# Altium integrated library 2021-06-08_17-56-01.IntLib: 1 symbol
Pins are listed as number, name and electrical type; pins without a type are passive.

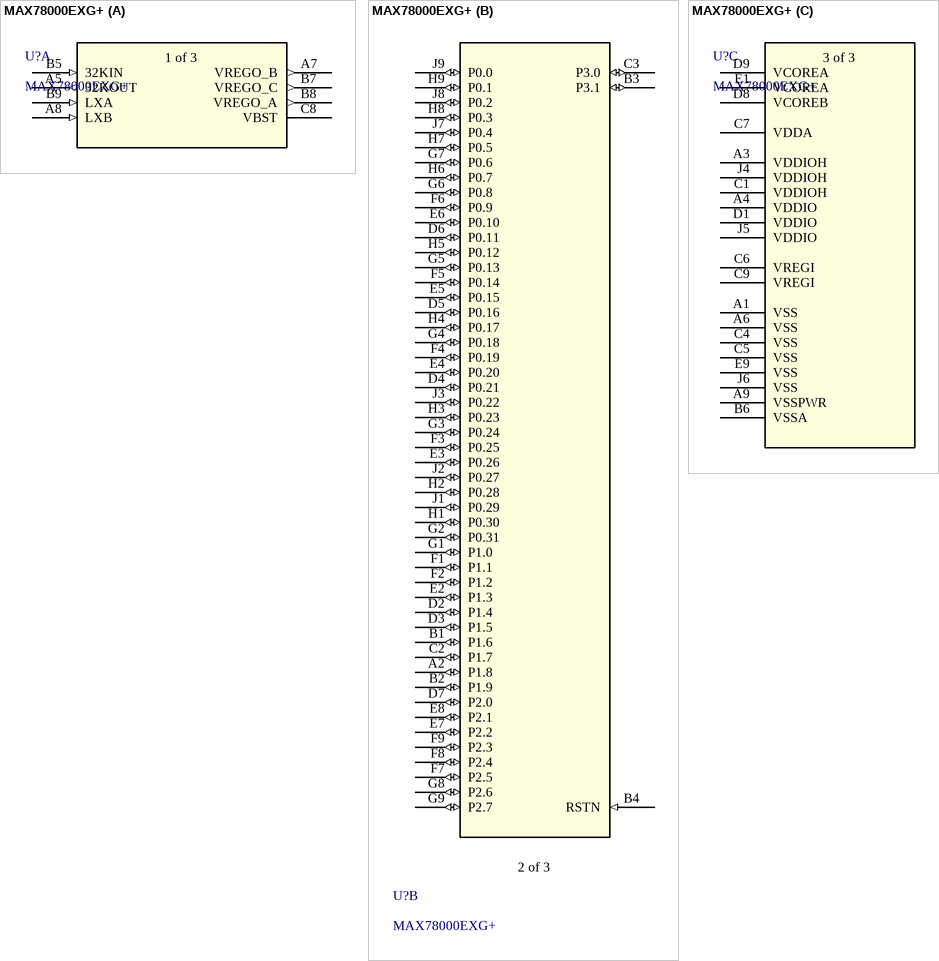
[diagram p0: symbol MAX78000EXG+]

## MAX78000EXG+
designator U?
No Description Available; Built_By: EMA_April; Vendor: Maxim Integrated Products; SourceLibrary: Add_to_database_2021-03-26; Copyright: Copyright (C) 2018 Accelerated Designs. All rights reserved; Manufacturer_Part_Number: MAX78000EXG+; RefDes: RefDes; Type: DEV
footprint 21-0735_MXM
part A pins: A5 32KOUT (out), A7 VREGO_B (out), A8 LXB (in), B5 32KIN (in), B7 VREGO_C (out), B8 VREGO_A (out), B9 LXA (in), C8 VBST
part B pins: A2 P1.8 (io), B1 P1.6 (io), B2 P1.9 (io), B3 P3.1 (io), B4 RSTN (in), C2 P1.7 (io), C3 P3.0 (io), D2 P1.4 (io), D3 P1.5 (io), D4 P0.21 (io), D5 P0.16 (io), D6 P0.11 (io), D7 P2.0 (io), E2 P1.3 (io), E3 P0.26 (io), E4 P0.20 (io), E5 P0.15 (io), E6 P0.10 (io), E7 P2.2 (io), E8 P2.1 (io), F1 P1.1 (io), F2 P1.2 (io), F3 P0.25 (io), F4 P0.19 (io), F5 P0.14 (io), F6 P0.9 (io), F7 P2.5 (io), F8 P2.4 (io), F9 P2.3 (io), G1 P1.0 (io), G2 P0.31 (io), G3 P0.24 (io), G4 P0.18 (io), G5 P0.13 (io), G6 P0.8 (io), G7 P0.6 (io), G8 P2.6 (io), G9 P2.7 (io), H1 P0.30 (io), H2 P0.28 (io), H3 P0.23 (io), H4 P0.17 (io), H5 P0.12 (io), H6 P0.7 (io), H7 P0.5 (io), H8 P0.3 (io), H9 P0.1 (io), J1 P0.29 (io), J2 P0.27 (io), J3 P0.22 (io), J7 P0.4 (io), J8 P0.2 (io), J9 P0.0 (io)
part C pins: A1 VSS, A3 VDDIOH (power), A4 VDDIO (power), A6 VSS, A9 VSSPWR, B6 VSSA, C1 VDDIOH (power), C4 VSS, C5 VSS, C6 VREGI (power), C7 VDDA (power), C9 VREGI (power), D1 VDDIO (power), D8 VCOREB (power), D9 VCOREA (power), E1 VCOREA (power), E9 VSS, J4 VDDIOH (power), J5 VDDIO (power), J6 VSS
part A text: 1 of 3
part B text: 2 of 3
part C text: 3 of 3